# Altium schematic symbol library SCH - MCU - ATMEGA - MICROCHIP ATXMEGA16C4-CU VFBGA49.SchLib: 1 symbol
Pins are listed as number, name and electrical type; pins without a type are passive.

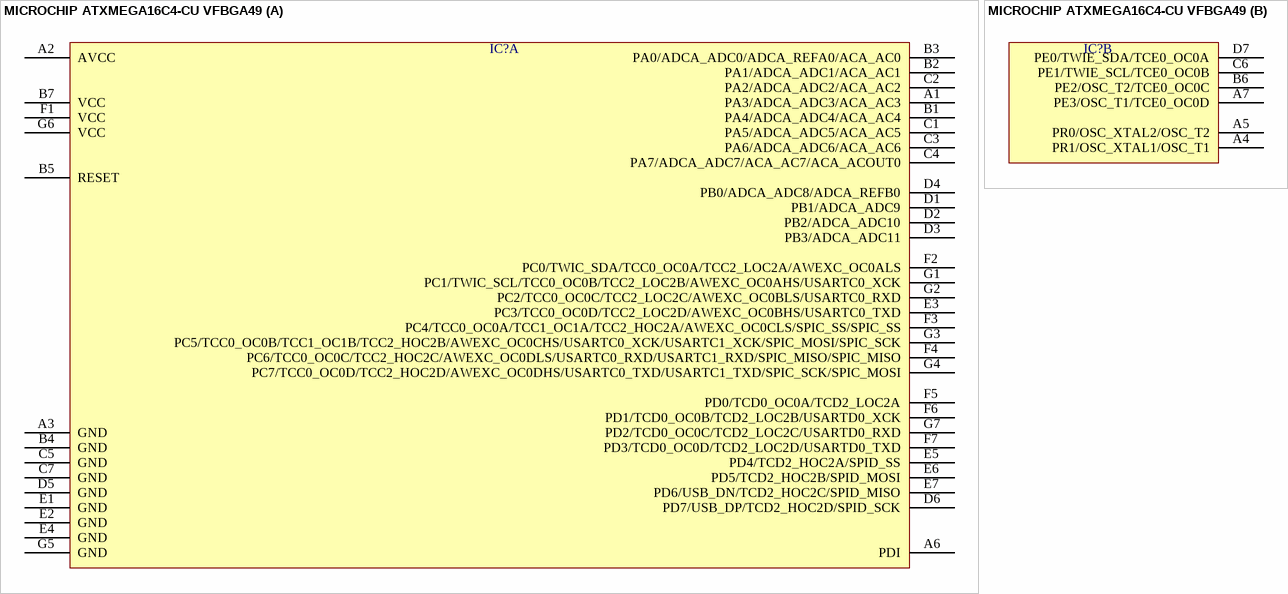
[diagram p0: symbol MICROCHIP ATXMEGA16C4-CU VFBGA49]

## MICROCHIP ATXMEGA16C4-CU VFBGA49
designator IC?  (value not drawn)
part A pins: A1 PA3/ADCA_ADC3/ACA_AC3, A2 AVCC, A3 GND, A6 PDI, B1 PA4/ADCA_ADC4/ACA_AC4, B2 PA1/ADCA_ADC1/ACA_AC1, B3 PA0/ADCA_ADC0/ADCA_REFA0/ACA_AC0, B4 GND, B5 RESET, B7 VCC, C1 PA5/ADCA_ADC5/ACA_AC5, C2 PA2/ADCA_ADC2/ACA_AC2, C3 PA6/ADCA_ADC6/ACA_AC6, C4 PA7/ADCA_ADC7/ACA_AC7/ACA_ACOUT0, C5 GND, C7 GND, D1 PB1/ADCA_ADC9, D2 PB2/ADCA_ADC10, D3 PB3/ADCA_ADC11, D4 PB0/ADCA_ADC8/ADCA_REFB0, D5 GND, D6 PD7/USB_DP/TCD2_HOC2D/SPID_SCK, E1 GND, E2 GND, E3 PC3/TCC0_OC0D/TCC2_LOC2D/AWEXC_OC0BHS/USARTC0_TXD, E4 GND, E5 PD4/TCD2_HOC2A/SPID_SS, E6 PD5/TCD2_HOC2B/SPID_MOSI, E7 PD6/USB_DN/TCD2_HOC2C/SPID_MISO, F1 VCC, F2 PC0/TWIC_SDA/TCC0_OC0A/TCC2_LOC2A/AWEXC_OC0ALS, F3 PC4/TCC0_OC0A/TCC1_OC1A/TCC2_HOC2A/AWEXC_OC0CLS/SPIC_SS/SPIC_SS, F4 PC6/TCC0_OC0C/TCC2_HOC2C/AWEXC_OC0DLS/USARTC0_RXD/USARTC1_RXD/SPIC_MISO/SPIC_MISO, F5 PD0/TCD0_OC0A/TCD2_LOC2A, F6 PD1/TCD0_OC0B/TCD2_LOC2B/USARTD0_XCK, F7 PD3/TCD0_OC0D/TCD2_LOC2D/USARTD0_TXD, G1 PC1/TWIC_SCL/TCC0_OC0B/TCC2_LOC2B/AWEXC_OC0AHS/USARTC0_XCK, G2 PC2/TCC0_OC0C/TCC2_LOC2C/AWEXC_OC0BLS/USARTC0_RXD, G3 PC5/TCC0_OC0B/TCC1_OC1B/TCC2_HOC2B/AWEXC_OC0CHS/USARTC0_XCK/USARTC1_XCK/SPIC_MOSI/SPIC_SCK, G4 PC7/TCC0_OC0D/TCC2_HOC2D/AWEXC_OC0DHS/USARTC0_TXD/USARTC1_TXD/SPIC_SCK/SPIC_MOSI, G5 GND, G6 VCC, G7 PD2/TCD0_OC0C/TCD2_LOC2C/USARTD0_RXD
part B pins: A4 PR1/OSC_XTAL1/OSC_T1, A5 PR0/OSC_XTAL2/OSC_T2, A7 PE3/OSC_T1/TCE0_OC0D, B6 PE2/OSC_T2/TCE0_OC0C, C6 PE1/TWIE_SCL/TCE0_OC0B, D7 PE0/TWIE_SDA/TCE0_OC0A